# EAGLE library part POT-STEREO (library r)
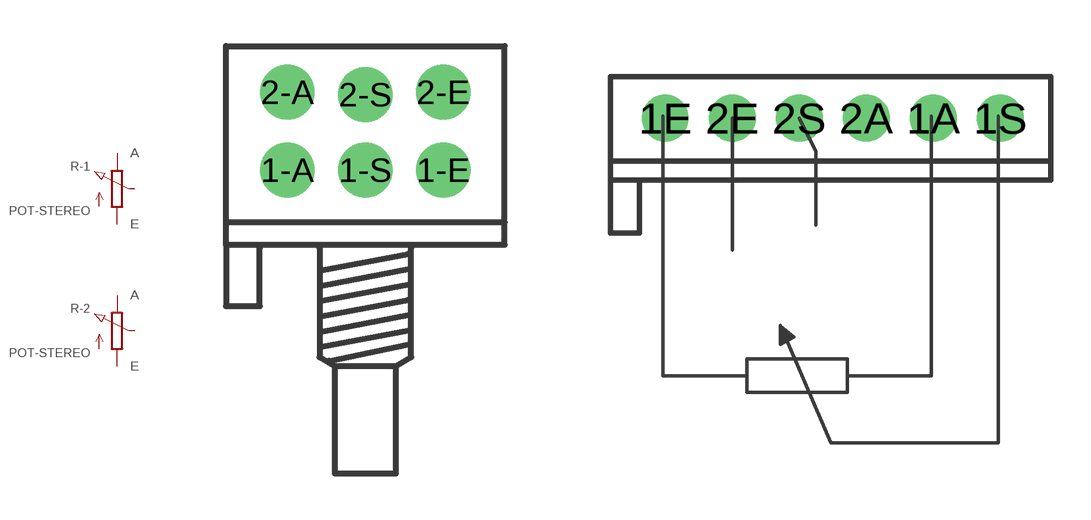
[diagram p1: symbol with the pads of POT-STEREO-2X3; footprints POT-STEREO-2X3, POT-STEREO-1X6-V]

Designator prefix R; gates -1=POT -2=POT

## POT-STEREO  [POT-STEREO-2X3]
1-A  -1:A  pas
1-E  -1:E  pas
1-S  -1:S  pas
2-A  -2:A  pas
2-E  -2:E  pas
2-S  -2:S  pas

## POT-STEREO-1X6-V  [POT-STEREO-1X6-V]
1A  -1:A  pas
1E  -1:E  pas
1S  -1:S  pas
2A  -2:A  pas
2E  -2:E  pas
2S  -2:S  pas

## POT-STEREO-1X6  [POT-STEREO-1X6]
Pads as for POT-STEREO-1X6-V

## POT-STEREO2X3P  [CONN-2X3P]
1  -1:A  pas
2  -1:E  pas
3  -1:S  pas
4  -2:A  pas
5  -2:E  pas
6  -2:S  pas

## Footprint POT-STEREO-2X3 (pad centres in mm)
drill 0.9 pad 1.778: 1-A -2.54,-2.54; 1-E 2.54,-2.54; 1-S 0,-2.54; 2-A -2.54,0; 2-E 2.54,0; 2-S 0,-0.08

## Footprint POT-STEREO-1X6-V (pad centres in mm)
drill 0.9 pad 1.778: 1A 10.16,0; 1E 0,0; 1S 12.7,0; 2A 7.62,0; 2E 2.54,0; 2S 5.08,0

## Footprint POT-STEREO-1X6 (pad centres in mm)
drill 0.9 pad 1.778: 1A -3.81,2.54; 1E 6.35,2.54; 1S -6.35,2.54; 2A -1.27,2.54; 2E 3.81,2.54; 2S 1.27,2.54

## Footprint CONN-2X3P (pad centres in mm)
drill 0.9 pad 1.778 square: 1 -2.54,-1.27
drill 0.9 pad 1.778 octagon: 2 0,-1.27; 3 2.54,-1.27; 4 -2.54,1.27; 5 0,1.27; 6 2.54,1.27